# Altium integrated library 100nF 10V X7R CER CAP.IntLib: 1 symbol
Pins are listed as number, name and electrical type; pins without a type are passive.

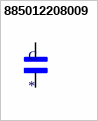
[diagram p0: symbol 885012208009]

## 885012208009
designator C
WCAP-CSGP General Purpose MLCC; SMT 1206; X7R; 100nF 10%; 10V; -55C to +125C; Tech. PN X7R1206104K010DFCT10000; MP: 885012208009; MF: Wurth Electronics Inc; Value: *; SnapEDA_Link: https://www.snapeda.com/parts/885012208009/Wurth%20Electronics%20Inc/view-part/4217305/?ref=snap; Availability: Unavailable; Price: None; Package: 1206 Wurth Electronics Inc
footprint WCAP-CSGP_885012208009
pins: 1, 2